# Altium footprint library SM_IPC_L_0805_4PIN.PcbLib: 1 footprints
Each footprint in its own frame and in the unit in brackets; x right, y up, seen from the top. Pads: shape width x height; smd on the part's side, far side on the other; paste and mask are expansions set on the pad; w line width, h text height; cw(c..) or ccw(c..) is an arc to the next point about the centre after c.
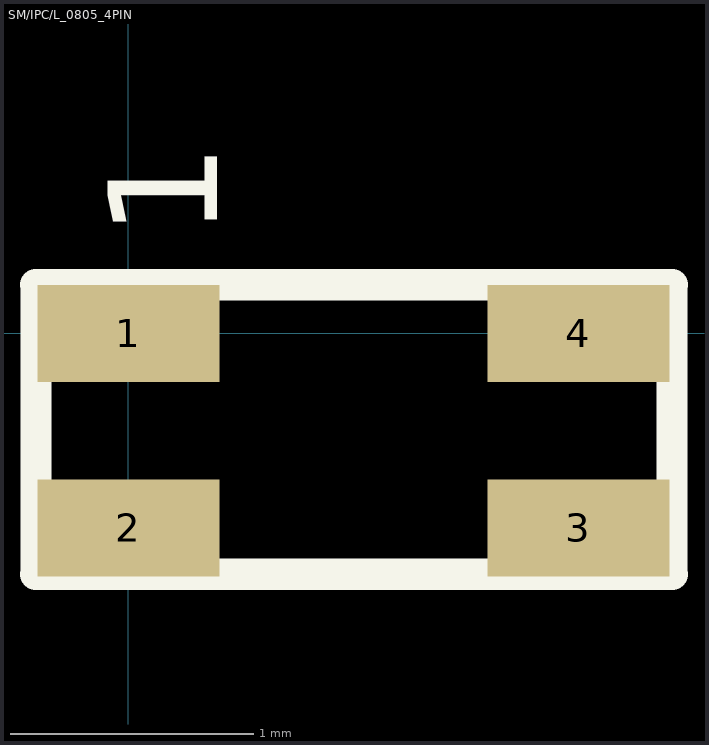
[diagram p0: the footprint, top view; thin cyan lines are the x and y axes]

## SM/IPC/L_0805_4PIN [mm]
pads (4):
  rect 0.749x0.4 smd: 1(0,0) 2(0,-0.8) 3(1.85,-0.8) 4(1.85,0)
Top Overlay:
  lines w0.127: -0.381,-0.991 -0.381,0.2 ; 2.235,-0.991 2.235,0.2
  lines w0.13: -0.381,-0.991 2.235,-0.991 ; -0.381,0.2 2.235,0.2
  text "1" at 0.365,0.39 h0.45